# EAGLE library part APDS-9300_APDS-9300 (library Shield)
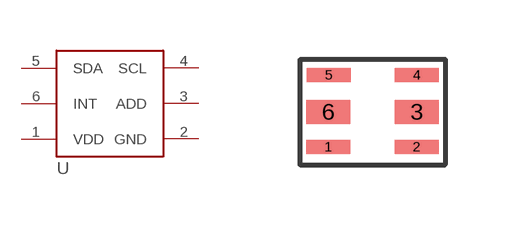
[diagram p0: symbol with the pads of APDS-9300_CHIP_LED; footprint APDS-9300_CHIP_LED]

Designator prefix -

## APDS-9300_APDS-9300  [APDS-9300_CHIP_LED]
1  VDD
2  GND
3  ADD
4  SCL
5  SDA
6  INT

## Footprint APDS-9300_CHIP_LED (pad centres in mm)
smd 1.1 x 0.35: 1 -1.06,-0.88; 2 1.15,-0.88; 4 1.15,0.92; 5 -1.05,0.92
smd 1.1 x 0.6: 3 1.15,0; 6 -1.06,0